# EAGLE library part USB_MINI_B (library VestibularVR H1-module v1.0)
CONN RCPT USB2.0 MINI B SMD R/A
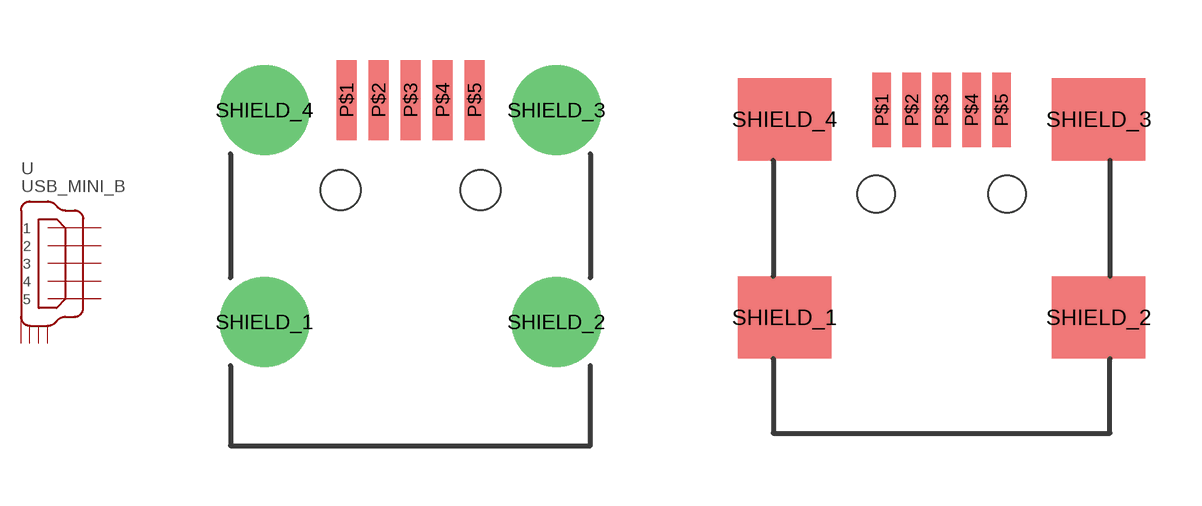
[diagram p3: symbol with the pads of 240-0002-1; footprints 240-0002-1, 240-0001-9]

Designator prefix -

## USB_MINI_B  [240-0002-1]
P$1  1
P$2  2
P$3  3
P$4  4
P$5  5
SHIELD_1  P$1
SHIELD_2  P$2
SHIELD_3  P$3
SHIELD_4  P$4

## USB_MINI_B""  [240-0001-9]
Pads as for 240-0002-1

## Footprint 240-0002-1 (pad centres in mm)
smd 0.5 x 2: P$1 -1.6,8.65; P$2 -0.8,8.65; P$3 0,8.65; P$4 0.8,8.65; P$5 1.6,8.65
drill 1.5: SHIELD_1 -3.65,3.1; SHIELD_2 3.65,3.1; SHIELD_3 3.65,8.4; SHIELD_4 -3.65,8.4
hole 1 at -1.75,6.4
hole 1 at 1.75,6.4

## Footprint 240-0001-9 (pad centres in mm)
smd 0.5 x 2: P$1 -1.6,8.65; P$2 -0.8,8.65; P$3 0,8.65; P$4 0.8,8.65; P$5 1.6,8.65
smd 2.5 x 2.2: SHIELD_1 -4.2,3.1; SHIELD_2 4.2,3.1; SHIELD_3 4.2,8.4; SHIELD_4 -4.2,8.4
hole 1 at -1.75,6.4
hole 1 at 1.75,6.4